# Altium schematic symbol library Capacitors.SchLib: 17 symbols
Pins are listed as number, name and electrical type; pins without a type are passive.

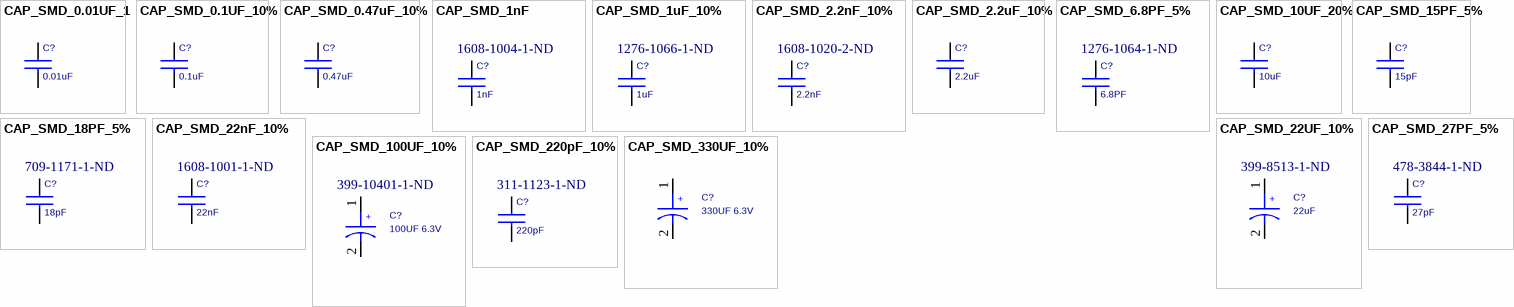
[diagram p0: symbols CAP_SMD_0.01UF_1 to CAP_SMD_330UF_10%]

## CAP_SMD_0.01UF_1
designator C?, comment 0.01uF
CAP CER 0.01uF 100V X7R 0805; Value: 0.01uF; Supplier 1: Digi-Key; Supplier Part Number 1: 399-1159-1-ND
footprint CAPC2012X09M (Chip Capacitor, 2-Leads, Body 2,01x1,25mm, IPC Low Density)
pins: 1, 2

## CAP_SMD_0.1UF_10%
designator C?, comment 0.1uF
CAP CER 0.1UF 25V 10% X7R 0805; Value: 0.1uF; Supplier 1: Digi-Key; Supplier Part Number 1: 399-1168-6-ND
footprint CAPC2012X09M (Chip Capacitor, 2-Leads, Body 2,01x1,25mm, IPC Low Density)
pins: 1, 2

## CAP_SMD_0.47uF_10%
designator C?, comment 0.47uF
CAP CER 0.47UF 50V 10% X7R 0805; Value: 0.47uF; Supplier 1: Digi-Key; Supplier Part Number 1: 399-8100-2-ND
footprint CAPC2012X09M (Chip Capacitor, 2-Leads, Body 2,01x1,25mm, IPC Low Density)
pins: 1, 2

## CAP_SMD_1nF
designator C?, comment 1nF  Supplier Part Number 1: 1608-1004-1-ND
CAP, MLCC, 1NF, 50V, X7R, 0805; Value: 1nF; Supplier 1: Digi-Key
footprint CAPC2012X09M (Chip Capacitor, 2-Leads, Body 2,01x1,25mm, IPC Low Density)
pins: 1, 2

## CAP_SMD_1uF_10%
designator C?, comment 1uF  Supplier Part Number 1: 1276-1066-1-ND
MLCC; 1uF; 25V; X7R; ±10%; SMD; 0805;; Value: 1uF; Supplier 1: Digi-Key
footprint CAPC2012X09M (Chip Capacitor, 2-Leads, Body 2,01x1,25mm, IPC Low Density)
pins: 1, 2

## CAP_SMD_2.2nF_10%
designator C?, comment 2.2nF  Supplier Part Number 1: 1608-1020-2-ND
CAP 2.2NF 200V 10% X7R 0805; Value: 2.2nF; Supplier 1: Digi-Key
footprint CAPC2012X09M (Chip Capacitor, 2-Leads, Body 2,01x1,25mm, IPC Low Density)
pins: 1, 2

## CAP_SMD_2.2uF_10%
designator C?, comment 2.2uF
CAP CER 2.2UF 16V 10% X5R 0805; Value: 2.2uF; Supplier 1: Digi-Key; Supplier Part Number 1: 587-1293-1-ND
footprint CAPC2012X09M (Chip Capacitor, 2-Leads, Body 2,01x1,25mm, IPC Low Density)
pins: 1, 2

## CAP_SMD_6.8PF_5%
designator C?, comment 6.8PF  Supplier Part Number 1: 1276-1064-1-ND
CAP MLCC 6.8PF 50V 5% NP0 0805; Value: 6.8pF; Supplier 1: Digi-Key
footprint CAPC2012X09M (Chip Capacitor, 2-Leads, Body 2,01x1,25mm, IPC Low Density)
pins: 1, 2

## CAP_SMD_10UF_20%
designator C?, comment 10uF
CAP CER 10UF 16V 20% X5R 0805; Value: 10uF; Supplier 1: Digi-Key; Supplier Part Number 1: 399-8013-1-ND
footprint CAPC2012X09M (Chip Capacitor, 2-Leads, Body 2,01x1,25mm, IPC Low Density)
pins: 1, 2

## CAP_SMD_15PF_5%
designator C?, comment 15pF
CAP CER 15PF 50V 5% NP0 0805; Value: 15pF; Supplier 1: Digi-Key; Supplier Part Number 1: 1276-1163-6-ND
footprint CAPC2012X09M (Chip Capacitor, 2-Leads, Body 2,01x1,25mm, IPC Low Density)
pins: 1, 2

## CAP_SMD_18PF_5%
designator C?, comment 18pF  Supplier Part Number 1: 709-1171-1-ND
CAP CER 27PF 200V 5% NP0 0805; Supplier 1: Digi-Key
footprint CAPC2012X09M (Chip Capacitor, 2-Leads, Body 2,01x1,25mm, IPC Low Density)
pins: 1, 2

## CAP_SMD_22nF_10%
designator C?, comment 22nF  Supplier Part Number 1: 1608-1001-1-ND
CAP 22NF 50V 10% X7R 0805; Value: 22nF; Supplier 1: Digi-Key
footprint CAPC2012X09M (Chip Capacitor, 2-Leads, Body 2,01x1,25mm, IPC Low Density)
pins: 1, 2

## CAP_SMD_22UF_10%
designator C?, comment 22uF  Supplier Part Number 1: 399-8513-1-ND
CAP SMD 35volts 22uF 10% ESR=300mOhms; Supplier 1: Digi-Key
footprint CAPMP7143X31N (Molded Capacitor, 2-Leads, Body 7.15x4.30mm, IPC Medium Density)
pins: 1, 2
text: +

## CAP_SMD_27PF_5%
designator C?, comment 27pF  Supplier Part Number 1: 478-3844-1-ND
CAP CER 27PF 200V 5% NP0 0805; Value: 27pF; Supplier 1: Digi-Key
footprint CAPC2012X09M (Chip Capacitor, 2-Leads, Body 2,01x1,25mm, IPC Low Density)
pins: 1, 2

## CAP_SMD_100UF_10%
designator C?, comment 100UF 6.3V  Supplier Part Number 1: 399-10401-1-ND
CAP 100uF; 6.3V; Case: C; ESR:150mOhm; Supplier 1: Digi-Key
footprint CAPMP6133X31N (CASE C Molded Capacitor, 2-Leads, Body 6.15x3.30mm, IPC Medium Density)
pins: 1, 2
text: +

## CAP_SMD_220pF_10%
designator C?, comment 220pF  Supplier Part Number 1: 311-1123-1-ND
CAP 220PF 50V 10%  0805; Value: 220pF; Supplier 1: Digi-Key
footprint CAPC2012X09M (Chip Capacitor, 2-Leads, Body 2,01x1,25mm, IPC Low Density)
pins: 1, 2

## CAP_SMD_330UF_10%
designator C?, comment 330UF 6.3V
CAP 330uF; 6.3V; Case: D; Supplier 1: Digi-Key; Supplier Part Number 1: 399-10398-1-ND
footprint CAPMP7143X31N (CASE D Molded Capacitor, 2-Leads, Body 7.15x4.30mm, IPC Medium Density)
pins: 1, 2
text: +